# Altium footprint library Power.PcbLib: 7 footprints
Each footprint in its own frame and in the unit in brackets; x right, y up, seen from the top. Pads: shape width x height; smd on the part's side, far side on the other; paste and mask are expansions set on the pad; w line width, h text height; cw(c..) or ccw(c..) is an arc to the next point about the centre after c.
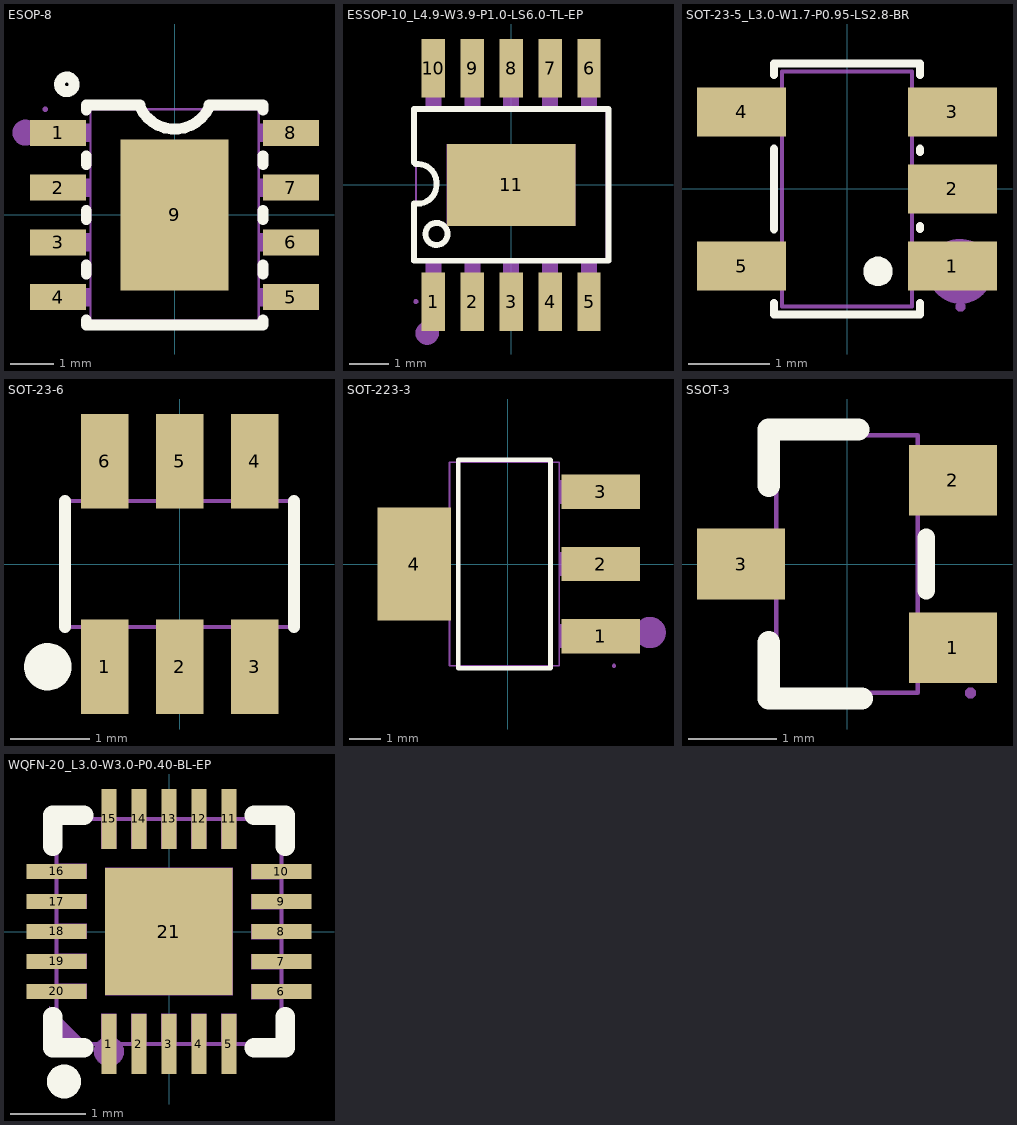
[diagram p0: the footprints below, top view; thin cyan lines are the x and y axes]

## ESOP-8 [mm]
pads (9):
  rect 1.3x0.6 smd: 1(-2.7,1.905) 2(-2.7,0.635) 3(-2.7,-0.635) 4(-2.7,-1.905) 5(2.7,-1.905) 6(2.7,-0.635) 7(2.7,0.635) 8(2.7,1.905)
  rect 2.5x3.5 smd: 9(0,0)
Top Overlay:
  circle w0.254: c-2.5,3.03 r0.17
  lines w0.254: -2.05,-2.436 -2.05,-2.55 2.05,-2.55 2.05,-2.436 ; -2.05,-1.374 -2.05,-1.166 ; -2.05,-0.104 -2.05,0.104 ; -2.05,1.166 -2.05,1.374 ; -2.05,2.436 -2.05,2.55 -0.8,2.55 ; -0.8,2.5 ccw(c0,2.875) 0.8,2.5 ; 0.8,2.55 2.05,2.55 2.05,2.436 ; 2.05,-1.374 2.05,-1.166 ; 2.05,-0.104 2.05,0.104 ; 2.05,1.166 2.05,1.374
Mechanical 6:
  circle w0.3: c-3.46,1.91 r0.15
Mechanical 15:
  region: -1.206,-1.65 -1.206,1.65 1.206,1.65 1.206,-1.65
  region: -3,2.115 -2.165,2.115 -2.165,1.695 -3,1.695
  region: -2.175,2.115 -1.94,2.115 -1.94,1.695 -2.175,1.695
  region: -3,0.845 -2.165,0.845 -2.165,0.425 -3,0.425
  region: -2.175,0.845 -1.94,0.845 -1.94,0.425 -2.175,0.425
  region: -3,-0.425 -2.165,-0.425 -2.165,-0.845 -3,-0.845
  region: -2.175,-0.425 -1.94,-0.425 -1.94,-0.845 -2.175,-0.845
  region: -3,-1.695 -2.165,-1.695 -2.165,-2.115 -3,-2.115
  region: -2.175,-1.695 -1.94,-1.695 -1.94,-2.115 -2.175,-2.115
  region: 2.165,-1.695 3,-1.695 3,-2.115 2.165,-2.115
  region: 1.94,-1.695 2.175,-1.695 2.175,-2.115 1.94,-2.115
  region: 2.165,-0.425 3,-0.425 3,-0.845 2.165,-0.845
  region: 1.94,-0.425 2.175,-0.425 2.175,-0.845 1.94,-0.845
  region: 2.165,0.845 3,0.845 3,0.425 2.165,0.425
  region: 1.94,0.845 2.175,0.845 2.175,0.425 1.94,0.425
  region: 2.165,2.115 3,2.115 3,1.695 2.165,1.695
  region: 1.94,2.115 2.175,2.115 2.175,1.695 1.94,1.695
  region: -2.94,2.45 -2.94,2.475 -2.975,2.509 -3.024,2.509 -3.059,2.475 -3.06,2.45 -3.059,2.426 -3.024,2.391 -2.975,2.391 -2.94,2.426
  lines w0.051: -1.95,-2.45 -1.95,2.45 1.95,2.45 1.95,-2.45 -1.95,-2.45
3D body "SOP-8.step": height 1.8, standoff -0.1, extent -3.153,-2.45 3.153,2.45

## ESSOP-10_L4.9-W3.9-P1.0-LS6.0-TL-EP [mm]
pads (11):
  rect 0.6x1.5 smd paste+0 mask+0.05: 1(-2,-3) 2(-1,-3) 3(0,-3) 4(1,-3) 5(2,-3) 6(2,3) 7(1,3) 8(0,3) 9(-1,3) 10(-2,3)
  rect 3.3x2.1 smd paste+0 mask+0.05: 11(0,0)
Top Overlay:
  circle w0.15: c-1.92,-1.26 r0.284
  lines w0.15: -2.5,-1.95 -2.5,-0.48 -2.4,-0.48 ccw(c-2.4,0) -1.92,0 ccw(c-2.416,0.044) -2.46,0.54 -2.5,0.58 -2.5,0.82 -2.5,1.95 2.5,1.95 2.5,-1.95 -2.5,-1.95
Mechanical 6:
  circle w0.3: c-2.159,-3.81 r0.15
Mechanical 15:
  region: -2.39,-3 -2.39,-2.975 -2.425,-2.94 -2.475,-2.94 -2.51,-2.975 -2.51,-3 -2.51,-3.025 -2.475,-3.06 -2.425,-3.06 -2.39,-3.025
  region: -2.2,-2.39 -2.2,-1.94 -1.8,-1.94 -1.8,-2.39
  region: -2.2,-3 -2.2,-2.38 -1.8,-2.38 -1.8,-3
  region: -1.2,-2.39 -1.2,-1.94 -0.8,-1.94 -0.8,-2.39
  region: -1.2,-3 -1.2,-2.38 -0.8,-2.38 -0.8,-3
  region: -0.2,-2.39 -0.2,-1.94 0.2,-1.94 0.2,-2.39
  region: -0.2,-3 -0.2,-2.38 0.2,-2.38 0.2,-3
  region: 0.8,-2.39 0.8,-1.94 1.2,-1.94 1.2,-2.39
  region: 0.8,-3 0.8,-2.38 1.2,-2.38 1.2,-3
  region: 1.8,-2.39 1.8,-1.94 2.2,-1.94 2.2,-2.39
  region: 1.8,-3 1.8,-2.38 2.2,-2.38 2.2,-3
  region: 1.8,1.94 1.8,2.39 2.2,2.39 2.2,1.94
  region: 1.8,2.38 1.8,3 2.2,3 2.2,2.38
  region: 0.8,1.94 0.8,2.39 1.2,2.39 1.2,1.94
  region: 0.8,2.38 0.8,3 1.2,3 1.2,2.38
  region: -0.2,1.94 -0.2,2.39 0.2,2.39 0.2,1.94
  region: -0.2,2.38 -0.2,3 0.2,3 0.2,2.38
  region: -1.2,1.94 -1.2,2.39 -0.8,2.39 -0.8,1.94
  region: -1.2,2.38 -1.2,3 -0.8,3 -0.8,2.38
  region: -2.2,1.94 -2.2,2.39 -1.8,2.39 -1.8,1.94
  region: -2.2,2.38 -2.2,3 -1.8,3 -1.8,2.38
  region: 1.65,-1.05 -1.65,-1.05 -1.65,1.05 1.65,1.05
  lines w0.051: -2.45,-1.95 -2.45,1.95 2.45,1.95 2.45,-1.95 -2.45,-1.95
3D body "ESSOP-10.step": height 1.54, standoff 0, extent -2.45,-3 2.45,3

## SOT-23-5_L3.0-W1.7-P0.95-LS2.8-BR [mm]
pads (5):
  rect 1.1x0.6 smd paste+0.051: 1(1.3,-0.95) 2(1.3,0) 3(1.3,0.95) 4(-1.3,0.95) 5(-1.3,-0.95)
Top Overlay:
  region: 0.204,-1.016 0.204,-0.981 0.23,-0.915 0.28,-0.864 0.346,-0.837 0.416,-0.837 0.482,-0.864 0.532,-0.915 0.558,-0.981 0.558,-1.016 0.558,-1.051 0.532,-1.117 0.482,-1.168 0.416,-1.195 0.346,-1.195 0.28,-1.168 0.23,-1.117 0.204,-1.051 0.204,-1.016
  lines w0.1: -0.9,-1.404 -0.9,-1.55 0.9,-1.55 0.9,-1.404 ; -0.9,-0.496 -0.9,0.496 ; -0.9,1.404 -0.9,1.55 0.9,1.55 0.9,1.404 ; 0.9,-0.496 0.9,-0.454 ; 0.9,0.454 0.9,0.496
Mechanical 2:
  circle w0.4: c1.397,-1.016 r0.2
Mechanical 6:
  lines w0.051: -0.8,-1.45 -0.8,1.45 0.8,1.45 0.8,-1.45 -0.8,-1.45
Mechanical 7:
  region: -0.96,-1.15 -0.96,-0.75 -0.79,-0.75 -0.79,-1.15
  region: -0.96,0.75 -0.96,1.15 -0.79,1.15 -0.79,0.75
  region: 0.79,0.75 0.79,1.15 0.96,1.15 0.96,0.75
  region: 0.79,-0.2 0.79,0.2 0.96,0.2 0.96,-0.2
  region: 0.79,-1.15 0.79,-0.75 0.96,-0.75 0.96,-1.15
Mechanical 8:
  region: 1.46,-1.45 1.46,-1.475 1.425,-1.51 1.375,-1.51 1.34,-1.475 1.34,-1.45 1.34,-1.425 1.375,-1.39 1.425,-1.39 1.46,-1.425 1.46,-1.45
Mechanical 9:
  region: -1.4,-1.15 -1.4,-0.75 -0.95,-0.75 -0.95,-1.15
  region: -1.4,0.75 -1.4,1.15 -0.95,1.15 -0.95,0.75
  region: 0.95,0.75 0.95,1.15 1.4,1.15 1.4,0.75
  region: 0.95,-0.2 0.95,0.2 1.4,0.2 1.4,-0.2
  region: 0.95,-1.15 0.95,-0.75 1.4,-0.75 1.4,-1.15
3D body "SOT-23-5.step": height 1.23, standoff -0.02, extent -1.508,-1.446 1.505,1.454

## SOT-23-6 [mm]
pads (6):
  rect 0.6x1.2 smd: 1(-0.95,-1.3) 2(0,-1.3) 3(0.95,-1.3) 4(0.95,1.3) 5(0,1.3) 6(-0.95,1.3)
Top Overlay:
  circle w0.3: c-1.668,-1.301 r0.15
  lines w0.152: -1.45,-0.8 -1.45,0.8 ; 1.45,-0.8 1.45,0.8
Mechanical 6:
  circle w0.2: c-0.92,-1.68 r0.1
Mechanical 15:
  lines w0.051: -1.45,-0.8 1.45,-0.8 1.45,0.8 -1.45,0.8 -1.45,-0.8
3D body "SOT-23-6.step": height 1.35, standoff 0, extent -1.45,-1.4 1.45,1.4

## SOT-223-3 [mm]
pads (4):
  rect 2.5x1.1 smd: 1(2.97,-2.3) 2(2.97,0) 3(2.97,2.3)
  rect 2.34x3.6 smd: 4(-2.97,0)
Top Overlay:
  lines w0.152: -1.571,-3.326 -1.571,3.326 1.371,3.326 1.371,-3.326 -1.571,-3.326
Mechanical 6:
  circle w0.5: c4.552,-2.188 r0.25
Mechanical 15:
  region: 3.46,-3.25 3.46,-3.225 3.425,-3.19 3.375,-3.19 3.34,-3.225 3.34,-3.25 3.34,-3.275 3.375,-3.31 3.425,-3.31 3.46,-3.275
  region: 1.64,1.925 1.64,2.675 2.66,2.675 2.66,1.925
  region: 2.65,1.925 2.65,2.675 3.4,2.675 3.4,1.925
  region: 1.64,-0.375 1.64,0.375 2.66,0.375 2.66,-0.375
  region: 2.65,-0.375 2.65,0.375 3.4,0.375 3.4,-0.375
  region: 1.64,-2.675 1.64,-1.925 2.66,-1.925 2.66,-2.675
  region: 2.65,-2.675 2.65,-1.925 3.4,-1.925 3.4,-2.675
  region: -2.86,-1.5 -2.86,1.5 -1.84,1.5 -1.84,-1.5
  region: -3.6,-1.5 -3.6,1.5 -2.85,1.5 -2.85,-1.5
  lines w0.051: -1.85,-3.25 -1.85,3.25 1.65,3.25 1.65,-3.25 -1.85,-3.25
3D body "SOT-223-3.step": height 1.7, standoff -0.05, extent -3.555,-3.25 3.555,3.25

## SSOT-3 [mm]
pads (3):
  rect 1x0.8 smd: 1(1.2,-0.95) 2(1.2,0.95) 3(-1.2,0)
Top Overlay:
  lines w0.2: 0.9,-0.3 0.9,0.3
  lines w0.254: -0.889,-0.889 -0.889,-1.524 0.165,-1.524 ; -0.889,0.889 -0.889,1.524 0.127,1.524
Mechanical 6:
  circle w0.254: c1.397,-0.889 r0.127
Mechanical 15:
  region: 1.46,-1.46 1.46,-1.435 1.425,-1.4 1.375,-1.4 1.34,-1.435 1.34,-1.46 1.34,-1.485 1.375,-1.52 1.425,-1.52 1.46,-1.485
  region: -0.96,-0.2 -0.96,0.2 -0.79,0.2 -0.79,-0.2
  region: -1.4,-0.2 -1.4,0.2 -0.95,0.2 -0.95,-0.2
  region: 0.79,-1.15 0.79,-0.75 0.96,-0.75 0.96,-1.15
  region: 0.95,-1.15 0.95,-0.75 1.4,-0.75 1.4,-1.15
  region: 0.79,0.75 0.79,1.15 0.96,1.15 0.96,0.75
  region: 0.95,0.75 0.95,1.15 1.4,1.15 1.4,0.75
  lines w0.051: -0.8,-1.46 -0.8,1.46 0.8,1.46 0.8,-1.46 -0.8,-1.46
3D body "SOT-23.step": height 0.98, standoff -0.01, extent -1.255,-1.46 1.255,1.46

## WQFN-20_L3.0-W3.0-P0.40-BL-EP [mm]
pads (21):
  rect 0.2x0.8 smd: 1(-0.8,-1.5) 2(-0.4,-1.5) 3(0,-1.5) 4(0.4,-1.5) 5(0.8,-1.5) 11(0.8,1.5) 12(0.4,1.5) 13(0,1.5) 14(-0.4,1.5) 15(-0.8,1.5)
  rect 0.8x0.2 smd: 6(1.5,-0.8) 7(1.5,-0.4) 8(1.5,0) 9(1.5,0.4) 10(1.5,0.8) 16(-1.5,0.8) 17(-1.5,0.4) 18(-1.5,0) 19(-1.5,-0.4) 20(-1.5,-0.8)
  rect 1.7x1.7 smd: 21(0,0)
Top Overlay:
  circle w0.254: c-1.4,-2 r0.1
  lines w0.254: -1.55,-1.131 -1.55,-1.55 -1.131,-1.55 ; -1.55,1.131 -1.55,1.55 -1.131,1.55 ; 1.131,-1.55 1.55,-1.55 1.55,-1.131 ; 1.131,1.55 1.55,1.55 1.55,1.131
Mechanical 6:
  circle w0.2: c-0.8,-1.6 r0.1
  region: -1.6,-1.6 -1.6,-1 -1,-1.6
Mechanical 15:
  region: -0.85,-0.85 -0.85,0.85 0.85,0.85 0.85,-0.85
  region: -0.7,-1.5 -0.9,-1.5 -0.9,-1.1 -0.7,-1.1
  region: -0.3,-1.5 -0.5,-1.5 -0.5,-1.1 -0.3,-1.1
  region: 0.1,-1.5 -0.1,-1.5 -0.1,-1.1 0.1,-1.1
  region: 0.5,-1.5 0.3,-1.5 0.3,-1.1 0.5,-1.1
  region: 0.9,-1.5 0.7,-1.5 0.7,-1.1 0.9,-1.1
  region: 1.5,-0.7 1.5,-0.9 1.1,-0.9 1.1,-0.7
  region: 1.5,-0.3 1.5,-0.5 1.1,-0.5 1.1,-0.3
  region: 1.5,0.1 1.5,-0.1 1.1,-0.1 1.1,0.1
  region: 1.5,0.5 1.5,0.3 1.1,0.3 1.1,0.5
  region: 1.5,0.9 1.5,0.7 1.1,0.7 1.1,0.9
  region: 0.9,1.1 0.7,1.1 0.7,1.5 0.9,1.5
  region: 0.5,1.1 0.3,1.1 0.3,1.5 0.5,1.5
  region: 0.1,1.1 -0.1,1.1 -0.1,1.5 0.1,1.5
  region: -0.3,1.1 -0.5,1.1 -0.5,1.5 -0.3,1.5
  region: -0.7,1.1 -0.9,1.1 -0.9,1.5 -0.7,1.5
  region: -1.5,0.7 -1.5,0.9 -1.1,0.9 -1.1,0.7
  region: -1.5,0.3 -1.5,0.5 -1.1,0.5 -1.1,0.3
  region: -1.5,-0.1 -1.5,0.1 -1.1,0.1 -1.1,-0.1
  region: -1.5,-0.5 -1.5,-0.3 -1.1,-0.3 -1.1,-0.5
  region: -1.5,-0.9 -1.5,-0.7 -1.1,-0.7 -1.1,-0.9
  region: -1.44,-1.5 -1.441,-1.476 -1.476,-1.443 -1.524,-1.443 -1.559,-1.476 -1.56,-1.5 -1.559,-1.524 -1.524,-1.557 -1.476,-1.557 -1.441,-1.524
  lines w0.051: -1.5,-1.5 1.5,-1.5 1.5,1.5 -1.5,1.5 -1.5,-1.5
3D body "WQFN-20.step": height 0.81, standoff 0, extent -1.51,-1.51 1.51,1.51